# Altium schematic symbol library BZX384-C5V2.SchLib: 1 symbol
Pins are listed as number, name and electrical type; pins without a type are passive.

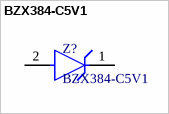
[diagram p0: symbol BZX384-C5V1]

## BZX384-C5V1
designator Z?
footprint FP-SOD323-MFG
footprint BZX384-SOD323-IPC_A
footprint BZX384-SOD323-IPC_B
footprint BZX384-SOD323-IPC_C
pins: 1 C, 2 A